# Altium schematic symbol library BQ34Z100.Schlib: 1 symbol
Pins are listed as number, name and electrical type; pins without a type are passive.

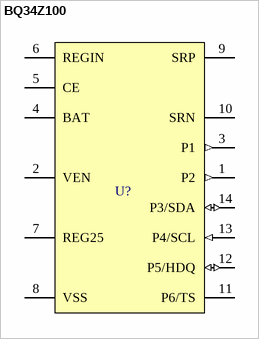
[diagram p0: symbol BQ34Z100]

## BQ34Z100
designator U?
Wide Range Fuel Gauge with Impedance Track™ Technology
pins: 1 P2 (out), 2 VEN, 3 P1 (out), 4 BAT, 5 CE, 6 REGIN (power), 7 REG25 (power), 8 VSS (power), 9 SRP, 10 SRN, 11 P6/TS, 12 P5/HDQ (io), 13 P4/SCL (in), 14 P3/SDA (io)